# Altium schematic symbol library SN65HVD230DR.SchLib: 1 symbol
Pins are listed as number, name and electrical type; pins without a type are passive.

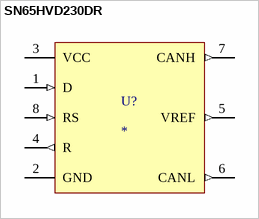
[diagram p0: symbol SN65HVD230DR]

## SN65HVD230DR
designator U?
3.3 V CAN Transceiver with Standby Mode 8-SOIC -40 to 85; MP: SN65HVD230DR; MF: {'manufacturer': u'Texas Instruments'}; Availability: Unavailable; Value: *; Package: None; Price: None
footprint SOIC127P599X175-8N
pins: 1 D (in), 2 GND (power), 3 VCC (power), 4 R (out), 5 VREF (out), 6 CANL (out), 7 CANH (out), 8 RS (in)